# Altium schematic symbol library Headers.SchLib: 33 symbols
Pins are listed as number, name and electrical type; pins without a type are passive.

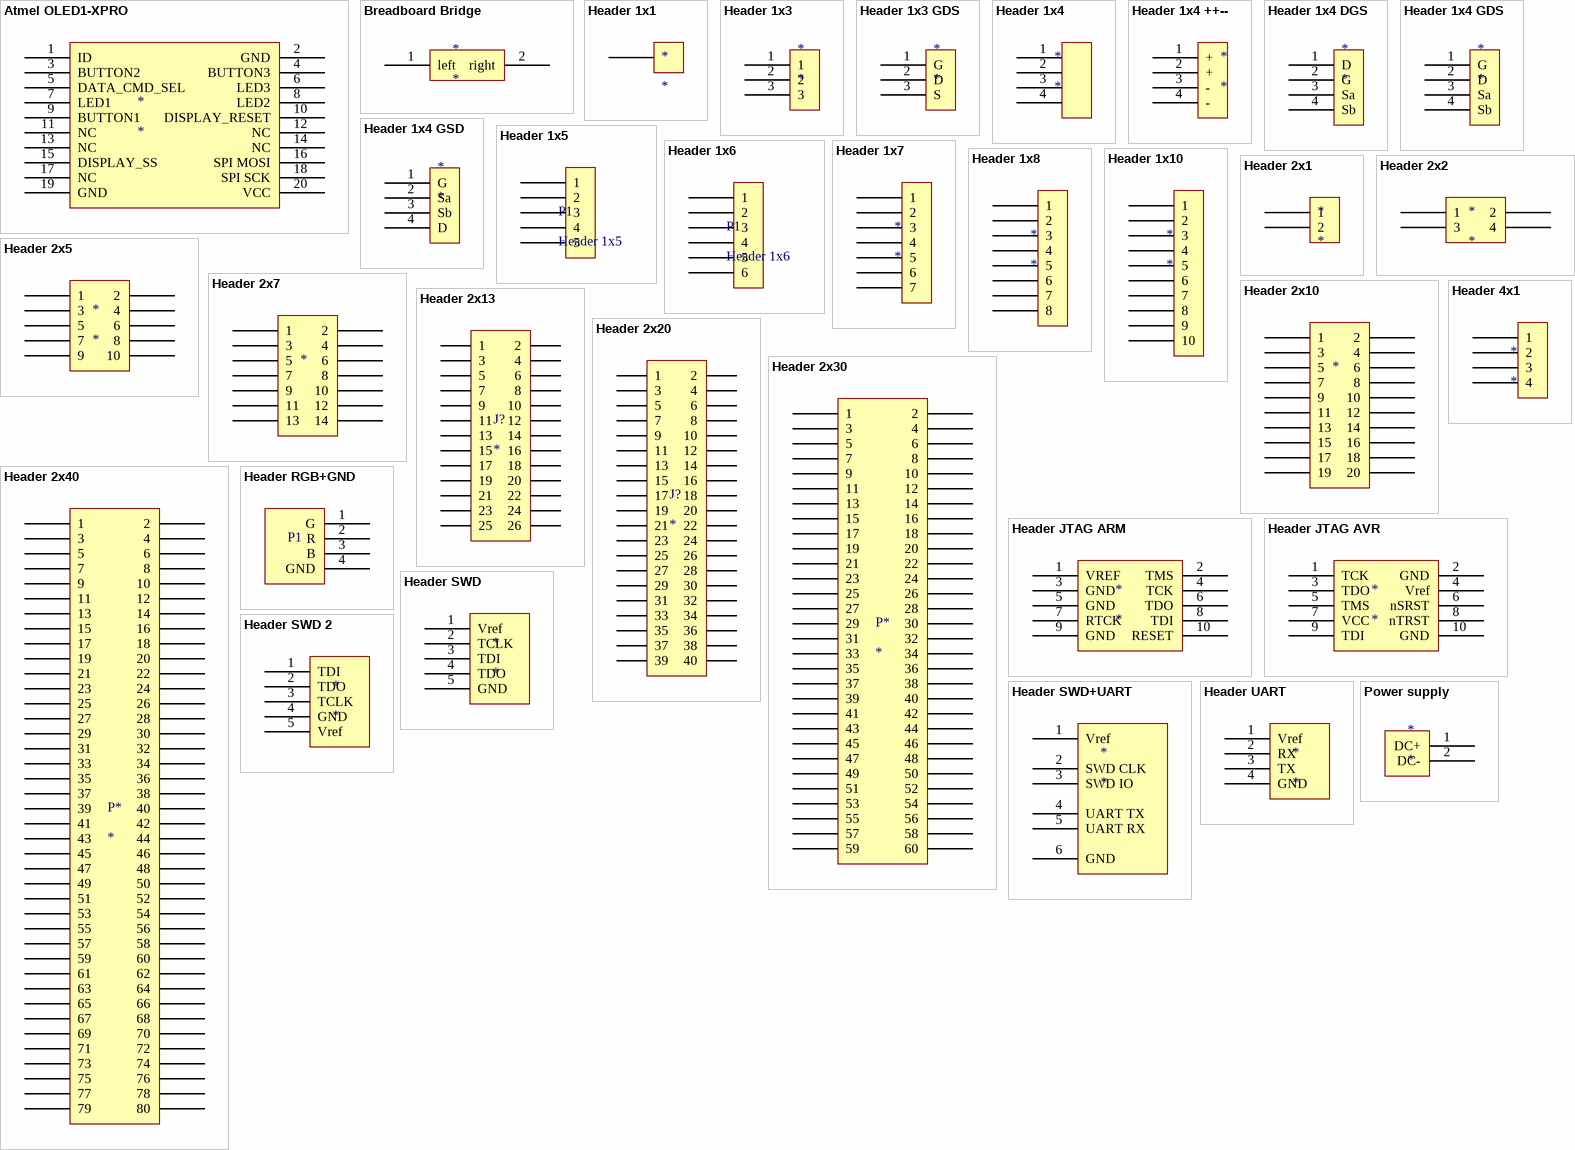
[diagram p0: symbols Atmel OLED1-XPRO to Power supply]

## Atmel OLED1-XPRO
designator *
pins: 1 ID, 2 GND, 3 BUTTON2, 4 BUTTON3, 5 DATA_CMD_SEL, 6 LED3, 7 LED1, 8 LED2, 9 BUTTON1, 10 DISPLAY_RESET, 11 NC, 12 NC, 13 NC, 14 NC, 15 DISPLAY_SS, 16 SPI MOSI, 17 NC, 18 SPI SCK, 19 GND, 20 VCC

## Breadboard Bridge
designator *
footprint Breadboard Bridge (2.54mm)
pins: 1 left, 2 right

## Header 1x1
designator *
footprint Header 1x1 long (2.54mm)
pins: 1

## Header 1x3
designator *
footprint Header 1x3 (2.54mm)
footprint Header 1x3 male (2.54mm)
pins: 1, 2, 3

## Header 1x3 GDS
designator *
footprint Header 1x3 (2.54mm)
pins: 1 G, 2 D, 3 S

## Header 1x4
designator *
footprint Header 1x4 (2.54mm)
pins: 1, 2, 3, 4

## Header 1x4 ++--
designator *
footprint Header 1x4 (2.54mm)
pins: 1 +, 2 +, 3 -, 4 -

## Header 1x4 DGS
designator *
footprint Header 1x4 (2.54mm)
pins: 1 D, 2 G, 3 Sa, 4 Sb

## Header 1x4 GDS
designator *
footprint Header 1x4 (2.54mm)
pins: 1 G, 2 D, 3 Sa, 4 Sb

## Header 1x4 GSD
designator *
footprint Header 1x4 (2.54mm)
pins: 1 G, 2 Sa, 3 Sb, 4 D

## Header 1x5
designator P1
footprint Header 1x5 male (2.54mm)
pins: 1, 2, 3, 4, 5

## Header 1x6
designator P1
footprint Header 1x6 (2.54mm)
pins: 1, 2, 3, 4, 5, 6

## Header 1x7
designator *
footprint Header 1x7 (2.54mm)
footprint Header 1x7 male (2.54mm)
pins: 1, 2, 3, 4, 5, 6, 7

## Header 1x8
designator *
footprint Header 1x8 male (2.54mm)
pins: 1, 2, 3, 4, 5, 6, 7, 8

## Header 1x10
designator *
footprint Header 1x10 male (2.54mm)
pins: 1, 2, 3, 4, 5, 6, 7, 8, 9, 10

## Header 2x1
designator *
pins: 1, 2

## Header 2x2
designator *
pins: 1, 2, 3, 4

## Header 2x5
designator *
pins: 1, 2, 3, 4, 5, 6, 7, 8, 9, 10

## Header 2x7
designator *  (value not drawn)
footprint Header 2x7 IDC SMD
pins: 1, 2, 3, 4, 5, 6, 7, 8, 9, 10, 11, 12, 13, 14

## Header 2x10
designator *  (value not drawn)
pins: 1, 2, 3, 4, 5, 6, 7, 8, 9, 10, 11, 12, 13, 14, 15, 16, 17, 18, 19, 20

## Header 2x13
designator J?
footprint Header 2x13 IDC SMD
pins: 1, 2, 3, 4, 5, 6, 7, 8, 9, 10, 11, 12, 13, 14, 15, 16, 17, 18, 19, 20, 21, 22, 23, 24, 25, 26

## Header 2x20
designator J?
pins: 1, 2, 3, 4, 5, 6, 7, 8, 9, 10, 11, 12, 13, 14, 15, 16, 17, 18, 19, 20, 21, 22, 23, 24, 25, 26, 27, 28, 29, 30, 31, 32, 33, 34, 35, 36, 37, 38, 39, 40

## Header 2x30
designator P*
pins: 1, 2, 3, 4, 5, 6, 7, 8, 9, 10, 11, 12, 13, 14, 15, 16, 17, 18, 19, 20, 21, 22, 23, 24, 25, 26, 27, 28, 29, 30, 31, 32, 33, 34, 35, 36, 37, 38, 39, 40, 41, 42, 43, 44, 45, 46, 47, 48, 49, 50, 51, 52, 53, 54, 55, 56, 57, 58, 59, 60

## Header 2x40
designator P*
pins: 1, 2, 3, 4, 5, 6, 7, 8, 9, 10, 11, 12, 13, 14, 15, 16, 17, 18, 19, 20, 21, 22, 23, 24, 25, 26, 27, 28, 29, 30, 31, 32, 33, 34, 35, 36, 37, 38, 39, 40, 41, 42, 43, 44, 45, 46, 47, 48, 49, 50, 51, 52, 53, 54, 55, 56, 57, 58, 59, 60, 61, 62, 63, 64, 65, 66, 67, 68, 69, 70, 71, 72, 73, 74, 75, 76, 77, 78, 79, 80

## Header 4x1
designator *
pins: 1, 2, 3, 4

## Header JTAG ARM
designator *
footprint Header 2x5 IDC-10S
pins: 1 VREF, 2 TMS, 3 GND, 4 TCK, 5 GND, 6 TDO, 7 RTCK, 8 TDI, 9 GND, 10 RESET

## Header JTAG AVR
designator *
footprint Header 2x5 IDC-10S
pins: 1 TCK, 2 GND, 3 TDO, 4 Vref, 5 TMS, 6 nSRST, 7 VCC, 8 nTRST, 9 TDI, 10 GND

## Header RGB+GND
designator P1  (value not drawn)
pins: 1 G, 2 R, 3 B, 4 GND

## Header SWD
designator *
pins: 1 Vref, 2 TCLK, 3 TDI, 4 TDO, 5 GND

## Header SWD 2
designator *
pins: 1 TDI, 2 TDO, 3 TCLK, 4 GND, 5 Vref

## Header SWD+UART
designator *
pins: 1 Vref, 2 SWD CLK, 3 SWD IO, 4 UART TX, 5 UART RX, 6 GND

## Header UART
designator *
pins: 1 Vref, 2 RX, 3 TX, 4 GND

## Power supply
designator *
pins: 1 DC+, 2 DC-